# EAGLE library part RT334 (library relays)
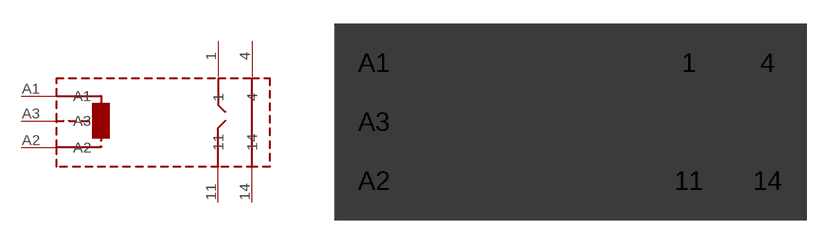
[diagram p0: symbol with the pads of RT334; footprint RT334]

Designator prefix RT334

## RT334F12 (AMPS: 16)  [RT334]
1  1
4  4
11  11
14  14
A1  A1
A2  A2
A3  A3

## Footprint RT334 (pad centres in mm)
Power PCB Relay RT1 Bistable
drill 1.3: 1 7.5,3.77; 4 12.5,3.77; 11 7.5,-3.73; 14 12.5,-3.73; A1 -12.5,3.77; A2 -12.5,-3.73; A3 -12.5,0.02
hole 1.3 at -12.5,3.77
hole 1.3 at -12.5,-3.73
hole 1.3 at -12.5,0.02
hole 1.3 at 7.5,3.77
hole 1.3 at 7.5,-3.73
hole 1.3 at 12.5,-3.73
hole 1.3 at 12.5,3.77